# EAGLE library part 16X2-MIX (library FansElectronics-LCD)
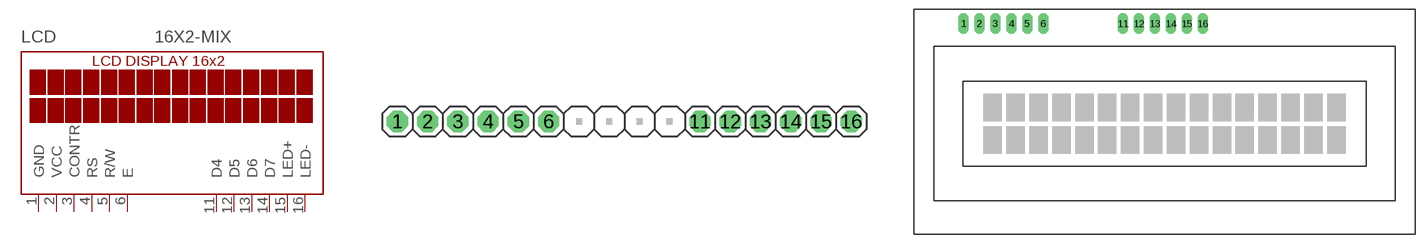
[diagram p1: symbol with the pads of 16X2-MIX-PIN; footprints 16X2-MIX-PIN, 16X2-MIX]

Designator prefix LCD

## 16X2-MIXPIN  [16X2-MIX-PIN]
1  GND  pwr
2  VCC  pwr
3  CONTR  in
4  RS  in
5  R/W  in
6  E  in
11  D4  in
12  D5  in
13  D6  in
14  D7  in
15  LED+  nc
16  LED-  nc

## 16X2-MIX  [16X2-MIX]
Pads as for 16X2-MIX-PIN

## Footprint 16X2-MIX-PIN (pad centres in mm)
drill 1.016 pad 1.778 octagon: 1 -19.05,0; 2 -16.51,0; 3 -13.97,0; 4 -11.43,0; 5 -8.89,0; 6 -6.35,0; 11 6.35,0; 12 8.89,0; 13 11.43,0; 14 13.97,0; 15 16.51,0; 16 19.05,0

## Footprint 16X2-MIX (pad centres in mm)
drill 1 pad 1.676 long: 1 -32.01,15.625; 2 -29.47,15.625; 3 -26.93,15.625; 4 -24.39,15.625; 5 -21.85,15.625; 6 -19.31,15.625; 11 -6.61,15.625; 12 -4.07,15.625; 13 -1.53,15.625; 14 1.01,15.625; 15 3.55,15.625; 16 6.09,15.625